# EAGLE library part MAX17043 (library MAX17043)
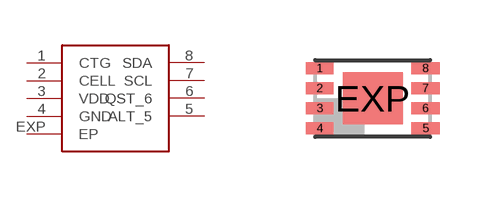
[diagram p0: symbol with the pads of DFN-2X3; footprint DFN-2X3]

Designator prefix -

## MAX17043  [DFN-2X3]
1  CTG
2  CELL
3  VDD
4  GND
5  ALT_5
6  QST_6
7  SCL
8  SDA
EXP  EP

## Footprint DFN-2X3 (pad centres in mm)
8-Lead Plastic Dual Flat No Lead Package (MC) 2x3x0.9 mm Body (DFN) - Saw Singulated Source: http://ww1.microchip.com/downloads/en/DeviceDoc/21796H.pdf
smd 0.7 x 0.3: 1 -1.325,0.75; 2 -1.325,0.25; 3 -1.325,-0.25; 4 -1.325,-0.75; 5 1.325,-0.75; 6 1.325,-0.25; 7 1.325,0.25; 8 1.325,0.75
smd 1.5 x 1.3: EXP 0,0